# EAGLE library part PIC32MK0512MCJ048 (library user_ic)
PIC32MK0512MCJ048 仕様 1. 定格3.3V、32bitMCU、FPU搭載、CAN-FD、QEI 2. モータコントロール向けマイコン
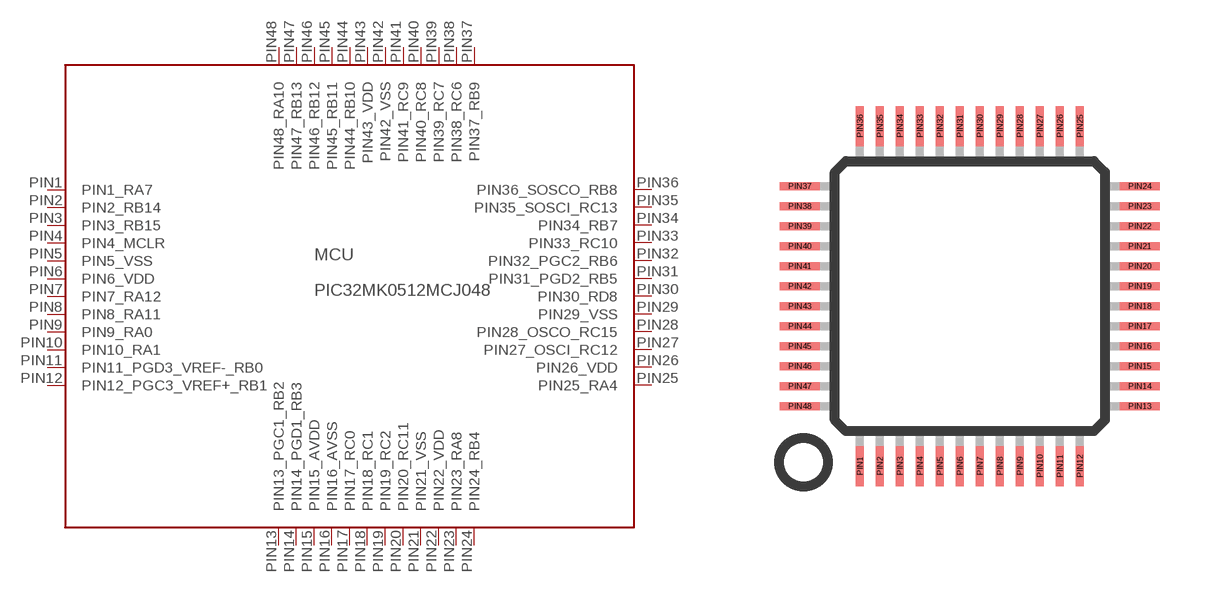
[diagram p28: symbol with the pads of LQFP48PIN; footprint LQFP48PIN]

Designator prefix MCU

## PIC32MK0512MCJ048  [LQFP48PIN]
PIN1  PIN1_RA7
PIN2  PIN2_RB14
PIN3  PIN3_RB15
PIN4  PIN4_MCLR
PIN5  PIN5_VSS
PIN6  PIN6_VDD
PIN7  PIN7_RA12
PIN8  PIN8_RA11
PIN9  PIN9_RA0
PIN10  PIN10_RA1
PIN11  PIN11_PGD3_VREF-_RB0
PIN12  PIN12_PGC3_VREF+_RB1
PIN13  PIN13_PGC1_RB2
PIN14  PIN14_PGD1_RB3
PIN15  PIN15_AVDD
PIN16  PIN16_AVSS
PIN17  PIN17_RC0
PIN18  PIN18_RC1
PIN19  PIN19_RC2
PIN20  PIN20_RC11
PIN21  PIN21_VSS
PIN22  PIN22_VDD
PIN23  PIN23_RA8
PIN24  PIN24_RB4
PIN25  PIN25_RA4
PIN26  PIN26_VDD
PIN27  PIN27_OSCI_RC12
PIN28  PIN28_OSCO_RC15
PIN29  PIN29_VSS
PIN30  PIN30_RD8
PIN31  PIN31_PGD2_RB5
PIN32  PIN32_PGC2_RB6
PIN33  PIN33_RC10
PIN34  PIN34_RB7
PIN35  PIN35_SOSCI_RC13
PIN36  PIN36_SOSCO_RB8
PIN37  PIN37_RB9
PIN38  PIN38_RC6
PIN39  PIN39_RC7
PIN40  PIN40_RC8
PIN41  PIN41_RC9
PIN42  PIN42_VSS
PIN43  PIN43_VDD
PIN44  PIN44_RB10
PIN45  PIN45_RB11
PIN46  PIN46_RB12
PIN47  PIN47_RB13
PIN48  PIN48_RA10

## Footprint LQFP48PIN (pad centres in mm)
48-pin plastic LQFP (FPT-48P-M26)
smd 0.2 x 1: PIN1 -2.75,-4.25; PIN2 -2.25,-4.25; PIN3 -1.75,-4.25; PIN4 -1.25,-4.25; PIN5 -0.75,-4.25; PIN6 -0.25,-4.25; PIN7 0.25,-4.25; PIN8 0.75,-4.25; PIN9 1.25,-4.25; PIN10 1.75,-4.25; PIN11 2.25,-4.25; PIN12 2.75,-4.25; PIN25 2.75,4.25; PIN26 2.25,4.25; PIN27 1.75,4.25; PIN28 1.25,4.25; PIN29 0.75,4.25; PIN30 0.25,4.25; PIN31 -0.25,4.25; PIN32 -0.75,4.25; PIN33 -1.25,4.25; PIN34 -1.75,4.25; PIN35 -2.25,4.25; PIN36 -2.75,4.25
smd 1 x 0.2: PIN13 4.25,-2.75; PIN14 4.25,-2.25; PIN15 4.25,-1.75; PIN16 4.25,-1.25; PIN17 4.25,-0.75; PIN18 4.25,-0.25; PIN19 4.25,0.25; PIN20 4.25,0.75; PIN21 4.25,1.25; PIN22 4.25,1.75; PIN23 4.25,2.25; PIN24 4.25,2.75; PIN37 -4.25,2.75; PIN38 -4.25,2.25; PIN39 -4.25,1.75; PIN40 -4.25,1.25; PIN41 -4.25,0.75; PIN42 -4.25,0.25; PIN43 -4.25,-0.25; PIN44 -4.25,-0.75; PIN45 -4.25,-1.25; PIN46 -4.25,-1.75; PIN47 -4.25,-2.25; PIN48 -4.25,-2.75